# EAGLE library part NINA-B306_NINA-B306 (library SmartTextilePCB)
BLUETOOTH LOW ENERGY MODULE STAN
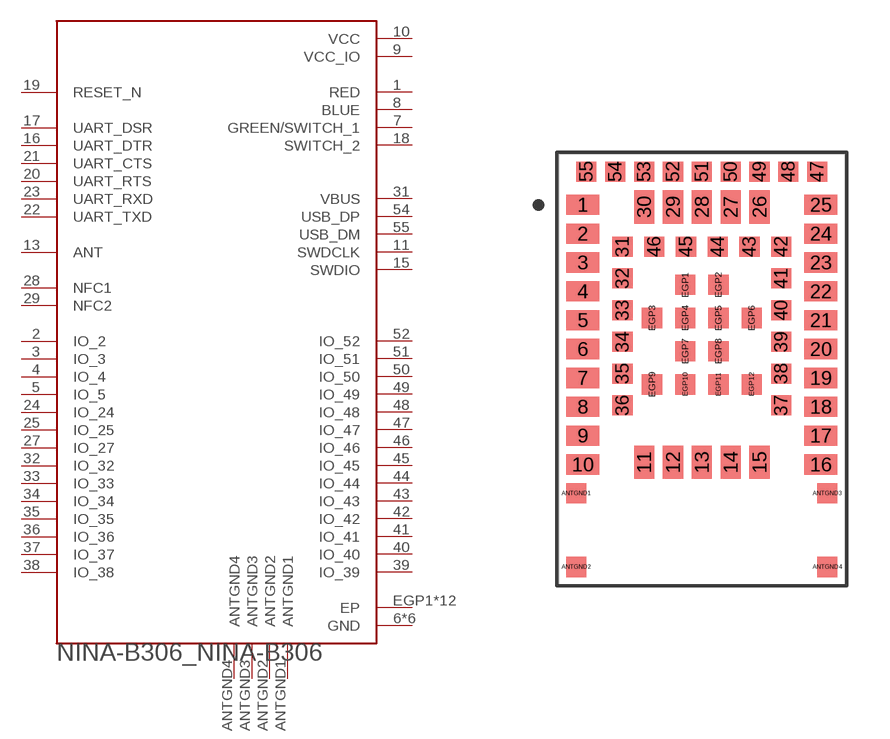
[diagram p0: symbol with the pads of NINA-B306_XCVR_NINA-B306; footprint NINA-B306_XCVR_NINA-B306]

Designator prefix U

## NINA-B306_NINA-B306 (AVAILABILITY: Unavailable; DESCRIPTION: Bluetooth Bluetooth v5.0 Transceiver Module 2.4GHz Antenna Not Included Surface Mount; MF: U-Blox America Inc.; MP: NINA-B311-00B; PACKAGE: SMD-55 U-Blox America Inc.; PRICE: None)  [NINA-B306_XCVR_NINA-B306]
1  RED  out
2  IO_2
3  IO_3
4  IO_4
5  IO_5
6  GND  pwr
7  GREEN/SWITCH_1
8  BLUE  out
9  VCC_IO  pwr
10  VCC  pwr
11  SWDCLK
12  GND  pwr
13  ANT
14  GND  pwr
15  SWDIO
16  UART_DTR  out
17  UART_DSR  in
18  SWITCH_2  in
19  RESET_N  in
20  UART_RTS  out
21  UART_CTS  in
22  UART_TXD  out
23  UART_RXD  in
24  IO_24
25  IO_25
26  GND  pwr
27  IO_27
28  NFC1
29  NFC2
30  GND  pwr
31  VBUS
32  IO_32
33  IO_33
34  IO_34
35  IO_35
36  IO_36
37  IO_37
38  IO_38
39  IO_39
40  IO_40
41  IO_41
42  IO_42
43  IO_43
44  IO_44
45  IO_45
46  IO_46
47  IO_47
48  IO_48
49  IO_49
50  IO_50
51  IO_51
52  IO_52
53  GND  pwr
54  USB_DP
55  USB_DM
ANTGND1  ANTGND1
ANTGND2  ANTGND2
ANTGND3  ANTGND3
ANTGND4  ANTGND4
EGP1  EP  pwr
EGP2  EP  pwr
EGP3  EP  pwr
EGP4  EP  pwr
EGP5  EP  pwr
EGP6  EP  pwr
EGP7  EP  pwr
EGP8  EP  pwr
EGP9  EP  pwr
EGP10  EP  pwr
EGP11  EP  pwr
EGP12  EP  pwr

## Footprint NINA-B306_XCVR_NINA-B306 (pad centres in mm)
smd 1.15 x 0.7: 1 -4.125,4; 2 -4.125,3; 3 -4.125,2; 4 -4.125,1; 5 -4.125,0; 6 -4.125,-1; 7 -4.125,-2; 8 -4.125,-3; 9 -4.125,-4; 10 -4.125,-5; 16 4.125,-5; 17 4.125,-4; 18 4.125,-3; 19 4.125,-2; 20 4.125,-1; 21 4.125,0; 22 4.125,1; 23 4.125,2; 24 4.125,3; 25 4.125,4
smd 0.7 x 1.15: 11 -2,-4.925; 12 -1,-4.925; 13 0,-4.925; 14 1,-4.925; 15 2,-4.925; 26 2,3.925; 27 1,3.925; 28 0,3.925; 29 -1,3.925; 30 -2,3.925
smd 0.7 x 0.7: 31 -2.75,2.55; 32 -2.75,1.45; 33 -2.75,0.35; 34 -2.75,-0.75; 35 -2.75,-1.85; 36 -2.75,-2.95; 37 2.75,-2.95; 38 2.75,-1.85; 39 2.75,-0.75; 40 2.75,0.35; 41 2.75,1.45; 42 2.75,2.55; 43 1.65,2.55; 44 0.55,2.55; 45 -0.55,2.55; 46 -1.65,2.55; 47 4,5.15; 48 3,5.15; 49 2,5.15; 50 1,5.15; 51 0,5.15; 52 -1,5.15; 53 -2,5.15; 54 -3,5.15; 55 -4,5.15; ANTGND1 -4.35,-6; ANTGND2 -4.35,-8.55; ANTGND3 4.35,-6; ANTGND4 4.35,-8.55; EGP1 -0.575,1.225; EGP2 0.575,1.225; EGP3 -1.725,0.075; EGP4 -0.575,0.075; EGP5 0.575,0.075; EGP6 1.725,0.075; EGP7 -0.575,-1.075; EGP8 0.575,-1.075; EGP9 -1.725,-2.225; EGP10 -0.575,-2.225; EGP11 0.575,-2.225; EGP12 1.725,-2.225